# EAGLE library part 6E1P (library FHD-RETRO)
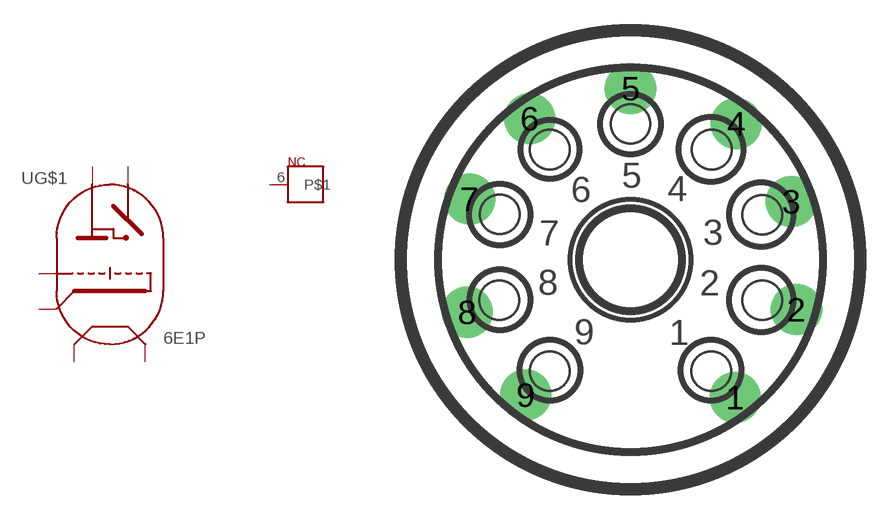
[diagram p4: symbol with the pads of NOVAL; footprint NOVAL]

Designator prefix -; gates G$1=6E1P G$2=NC

## 6E1P  [NOVAL]
1  G$1:G  in
2  G$1:K  in
3  G$1:PA  in
4  G$1:FIL2  out
5  G$1:FIL1  in
6  G$2:P$1  nc
7  G$1:A  in
8  G$1:PA  in
9  G$1:PA  in

## Footprint NOVAL (pad centres in mm)
drill 1.422 pad 2.54: 1 5.207,-6.858; 2 8.254,-2.484; 3 8.004,2.893; 4 5.258,6.77; 5 0,8.524; 6 -5.004,7.024; 7 -8.004,3.02; 8 -8.127,-2.611; 9 -5.207,-6.731